# Altium schematic symbol library Relay.SchLib: 257 symbols (part 1 of 3)
Pins are listed as number, name and electrical type; pins without a type are passive.

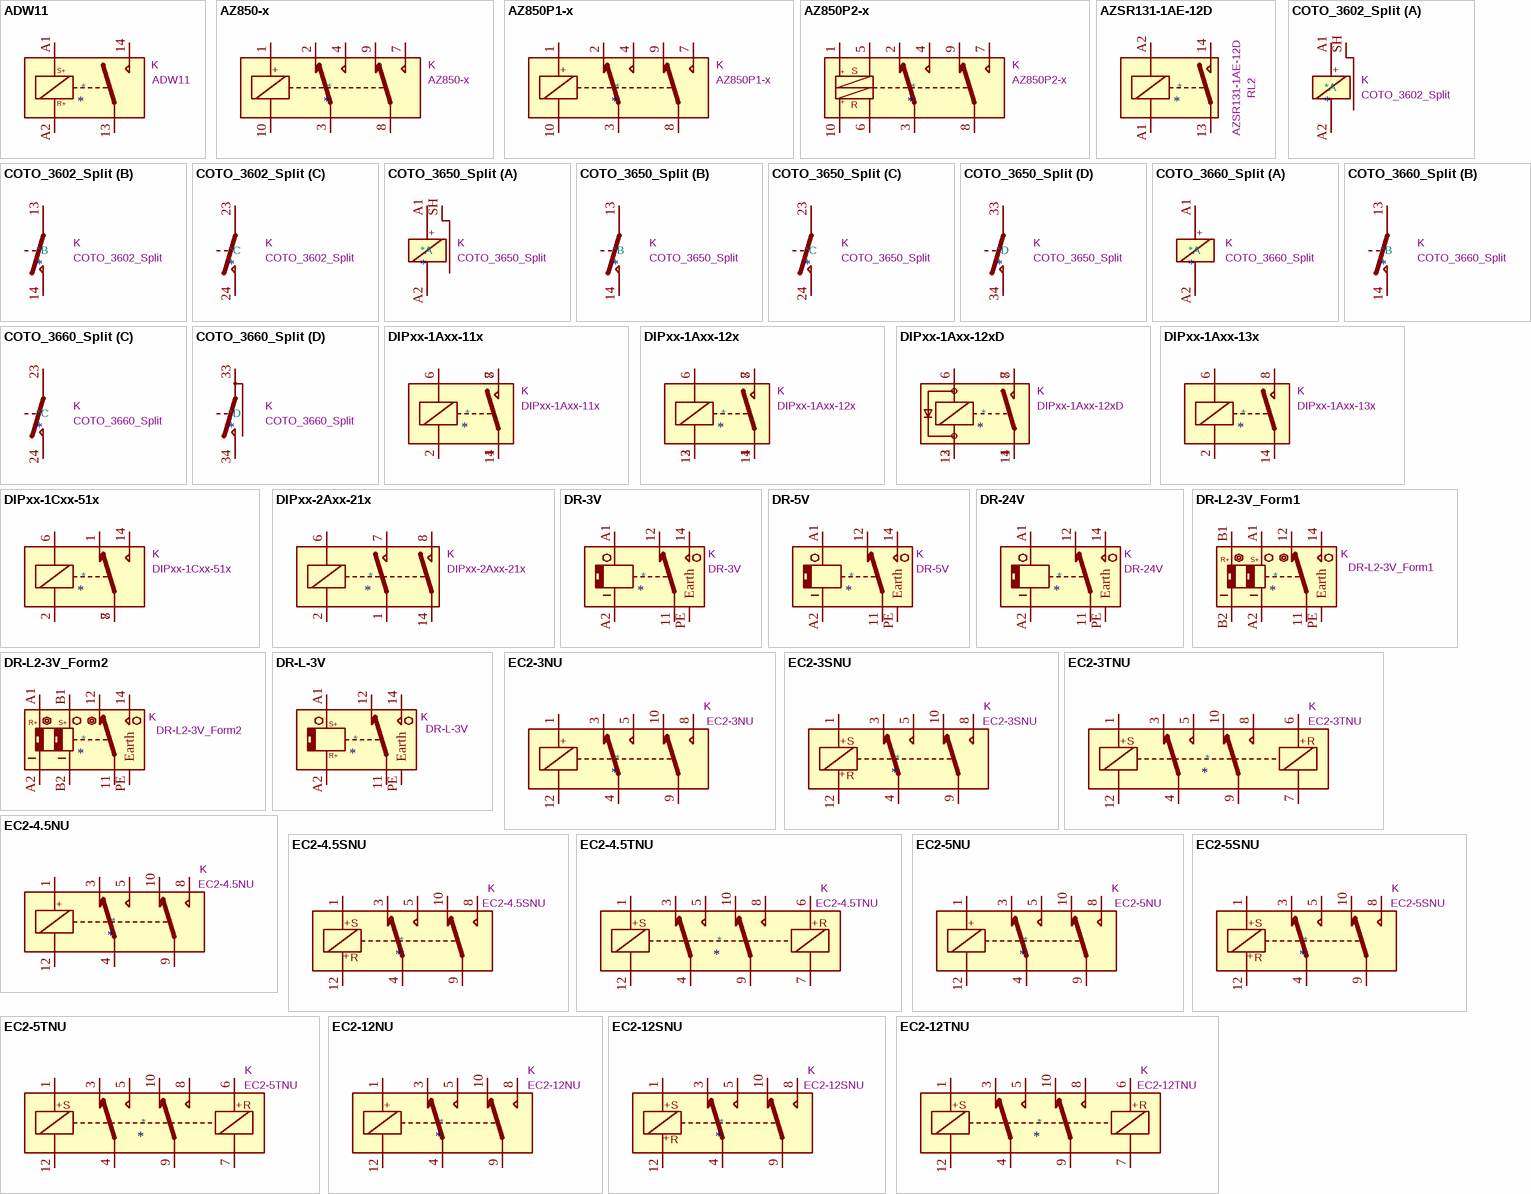
[diagram p0: symbols ADW11 to EC2-12TNU]

## ADW11
designator *  value ADW11  Reference: K
Panasonic, 8A/16A, Small Polarized Latching Power Relays, Single coil, 1 Form A; ki_keywords: SPST 1P1T latching bistable; ki_fp_filters: Relay*SPST*Panasonic*ADW11*; Footprint: Relay_THT:Relay_SPST_Panasonic_ADW11; Datasheet: https://api.pim.na.industrial.panasonic.com/file_stream/main/fileversion/270; Description_: Panasonic, 8A/16A, Small Polarized Latching Power Relays, Single coil, 1 Form A
pins: 13, 14, A1, A2
text: S+; R+

## AZ850-x
designator *  value AZ850-x  Reference: K
American Zettler, Microminiature Polarised Dual Pole Relay; ki_keywords: Miniature Polarised Relay Dual Pole; ki_fp_filters: Relay*DPDT*FRT5*; Footprint: Relay_THT:Relay_DPDT_FRT5; Datasheet: http://www.azettler.com/pdfs/az850.pdf; Description_: American Zettler, Microminiature Polarised Dual Pole Relay
pins: 1, 2, 3, 4, 7, 8, 9, 10
text: +

## AZ850P1-x
designator *  value AZ850P1-x  Reference: K
American Zettler, Microminiature Polarised Dual Pole Relay Bistable; ki_keywords: Miniature Polarised Relay Dual Pole Bistable; ki_fp_filters: Relay*DPDT*FRT5*; Footprint: Relay_THT:Relay_DPDT_FRT5; Datasheet: http://www.azettler.com/pdfs/az850.pdf; Description_: American Zettler, Microminiature Polarised Dual Pole Relay Bistable
pins: 1, 2, 3, 4, 7, 8, 9, 10
text: +

## AZ850P2-x
designator *  value AZ850P2-x  Reference: K
American Zettler, Microminiature Polarised Dual Pole Relay Bistable; ki_keywords: Miniature Polarised Relay Dual Pole Bistable; ki_fp_filters: Relay*DPDT*FRT5*; Footprint: Relay_THT:Relay_DPDT_FRT5; Datasheet: http://www.azettler.com/pdfs/az850.pdf; Description_: American Zettler, Microminiature Polarised Dual Pole Relay Bistable
pins: 1, 2, 3, 4, 5, 6, 7, 8, 9, 10
text: +; S; R

## AZSR131-1AE-12D
designator *  value AZSR131-1AE-12D  Reference: RL2
SPST, Closing Contact, 277VAC 35A max, 12V DC coil voltage; ki_keywords: Single Pole Reed Relay SPST; ki_fp_filters: Relay*AZSR131*; Footprint: Relay_THT:Relay_SPST_Zettler-AZSR131; Datasheet: https://www.azettler.com/pdfs/azsr131.pdf; Description_: SPST, Closing Contact, 277VAC 35A max, 12V DC coil voltage
pins: 13, 14, A1, A2

## COTO_3602_Split
designator *  value COTO_3602_Split  Reference: K
Low thermal EMF DPST-NO reed relay, 150V 0.25A, 30.48x16.76x12.06mm; ki_keywords: reed relay low thermal emf; ki_fp_filters: *Relay*COTO*3602*; Footprint: Relay_THT:Relay_DPST_COTO_3602; Datasheet: https://cotorelay.com/wp-content/uploads/2014/09/3600_series_reed_relay_datasheet.pdf; Description_: Low thermal EMF DPST-NO reed relay, 150V 0.25A, 30.48x16.76x12.06mm
part A pins: A1, A2, SH
part B pins: 13, 14
part C pins: 23, 24
part A text: +

## COTO_3650_Split
designator *  value COTO_3650_Split  Reference: K
Low thermal EMF 3PST-NO reed relay, 150V 0.25A, similar to 3660 but with independent shield, 30.48x16.76x12.06mm; ki_keywords: reed relay low thermal emf; ki_fp_filters: *Relay*COTO*3650*; Footprint: Relay_THT:Relay_3PST_COTO_3650; Datasheet: https://cotorelay.com/wp-content/uploads/2014/09/3600_series_reed_relay_datasheet.pdf; Description_: Low thermal EMF 3PST-NO reed relay, 150V 0.25A, similar to 3660 but with independent shield, 30.48x16.76x12.06mm
part A pins: A1, A2, SH
part B pins: 13, 14
part C pins: 23, 24
part D pins: 33, 34
part A text: +

## COTO_3660_Split
designator *  value COTO_3660_Split  Reference: K
Low thermal EMF 3PST-NO reed relay, 150V 0.25A, similar to 3650 but with shared shield/contact, 30.48x16.76x12.06mm; ki_keywords: reed relay low thermal emf; ki_fp_filters: *Relay*COTO*3660*; Footprint: Relay_THT:Relay_3PST_COTO_3660; Datasheet: https://cotorelay.com/wp-content/uploads/2014/09/3600_series_reed_relay_datasheet.pdf; Description_: Low thermal EMF 3PST-NO reed relay, 150V 0.25A, similar to 3650 but with shared shield/contact, 30.48x16.76x12.06mm
part A pins: A1, A2
part B pins: 13, 14
part C pins: 23, 24
part D pins: 33, 34
part A text: +

## DIPxx-1Axx-11x
designator *  value DIPxx-1Axx-11x  Reference: K
Standex Meder DIP reed relay, SPST, Closing Contact; ki_keywords: Single Pole Reed Relay SPST; ki_fp_filters: Relay*StandexMeder*DIP*LowProfile*; Footprint: Relay_THT:Relay_StandexMeder_DIP_LowProfile; Datasheet: https://standexelectronics.com/wp-content/uploads/datasheet_reed_relay_DIP.pdf; Description_: Standex Meder DIP reed relay, SPST, Closing Contact
pins: 1, 2, 6, 7, 8, 14

## DIPxx-1Axx-12x
designator *  value DIPxx-1Axx-12x  Reference: K
Standex Meder DIP reed relay, SPST, Closing Contact; ki_keywords: Single Pole Reed Relay SPST; ki_fp_filters: Relay*StandexMeder*DIP*LowProfile*; Footprint: Relay_THT:Relay_StandexMeder_DIP_LowProfile; Datasheet: https://standexelectronics.com/wp-content/uploads/datasheet_reed_relay_DIP.pdf; Description_: Standex Meder DIP reed relay, SPST, Closing Contact
pins: 1, 2, 6, 7, 8, 13, 14

## DIPxx-1Axx-12xD
designator *  value DIPxx-1Axx-12xD  Reference: K
Standex Meder DIP reed relay, SPST, Closing Contact, including diode; ki_keywords: Single Pole Reed Relay SPST; ki_fp_filters: Relay*StandexMeder*DIP*LowProfile*; Footprint: Relay_THT:Relay_StandexMeder_DIP_LowProfile; Datasheet: https://standexelectronics.com/wp-content/uploads/datasheet_reed_relay_DIP.pdf; Description_: Standex Meder DIP reed relay, SPST, Closing Contact, including diode
pins: 1, 2, 6, 7, 8, 13, 14

## DIPxx-1Axx-13x
designator *  value DIPxx-1Axx-13x  Reference: K
Standex Meder DIP reed relay, SPST, Closing Contact; ki_keywords: Single Pole Reed Relay SPST; ki_fp_filters: Relay*StandexMeder*DIP*LowProfile*; Footprint: Relay_THT:Relay_StandexMeder_DIP_LowProfile; Datasheet: https://standexelectronics.com/wp-content/uploads/datasheet_reed_relay_DIP.pdf; Description_: Standex Meder DIP reed relay, SPST, Closing Contact
pins: 2, 6, 8, 14

## DIPxx-1Cxx-51x
designator *  value DIPxx-1Cxx-51x  Reference: K
Standex Meder DIP reed relay, SPDT; ki_keywords: Single Pole Reed Relay SPDT; ki_fp_filters: Relay*StandexMeder*DIP*LowProfile*; Footprint: Relay_THT:Relay_StandexMeder_DIP_LowProfile; Datasheet: https://standexelectronics.com/wp-content/uploads/datasheet_reed_relay_DIP.pdf; Description_: Standex Meder DIP reed relay, SPDT
pins: 1, 2, 6, 7, 8, 14

## DIPxx-2Axx-21x
designator *  value DIPxx-2Axx-21x  Reference: K
Standex Meder DIP reed relay, DPST, Closing Contacts; ki_keywords: Single Pole Reed Relay DPST; ki_fp_filters: Relay*StandexMeder*DIP*LowProfile*; Footprint: Relay_THT:Relay_StandexMeder_DIP_LowProfile; Datasheet: https://standexelectronics.com/wp-content/uploads/datasheet_reed_relay_DIP.pdf; Description_: Standex Meder DIP reed relay, DPST, Closing Contacts
pins: 1, 2, 6, 7, 8, 14

## DR-3V
designator *  value DR-3V  Reference: K
3V DC, Single side stable, Polarized Coil, High speed; ki_keywords: highly reliable; ki_fp_filters: *Relay*SPDT*Panasonic?DR*; Footprint: Relay_THT:Relay_SPDT_Panasonic_DR; Datasheet: https://www.panasonic-electric-works.com/pew/de/downloads/ds_dr_en_discon.pdf; Description_: 3V DC, Single side stable, Polarized Coil, High speed
pins: 11, 12, 14, A1, A2, PE Earth

## DR-5V
designator *  value DR-5V  Reference: K
5V DC, Single side stable, Polarized Coil, High speed; ki_keywords: highly reliable; ki_fp_filters: *Relay*SPDT*Panasonic?DR*; Footprint: Relay_THT:Relay_SPDT_Panasonic_DR; Datasheet: https://mediap.industry.panasonic.eu/assets/download-files/import/ds_dr_en_discon.pdf; Description_: 5V DC, Single side stable, Polarized Coil, High speed
pins: 11, 12, 14, A1, A2, PE Earth

## DR-24V
designator *  value DR-24V  Reference: K
5V DC, Single side stable, Polarized Coil, High speed; ki_keywords: highly reliable; ki_fp_filters: *Relay*SPDT*Panasonic?DR*; Footprint: Relay_THT:Relay_SPDT_Panasonic_DR; Datasheet: https://mediap.industry.panasonic.eu/assets/download-files/import/ds_dr_en_discon.pdf; Description_: 5V DC, Single side stable, Polarized Coil, High speed
pins: 11, 12, 14, A1, A2, PE Earth

## DR-L2-3V_Form1
designator *  value DR-L2-3V_Form1  Reference: K
3V DC, 2 Latching Polarized Coils, Set A1, High speed; ki_keywords: highly reliable dual latch; ki_fp_filters: *Relay*SPDT*Panasonic?DR?L2*; Footprint: Relay_THT:Relay_SPDT_Panasonic_DR-L2; Datasheet: https://mediap.industry.panasonic.eu/assets/download-files/import/ds_dr_en_discon.pdf; Description_: 3V DC, 2 Latching Polarized Coils, Set A1, High speed
pins: 11, 12, 14, A1, A2, B1, B2, PE Earth
text: R+; S+

## DR-L2-3V_Form2
designator *  value DR-L2-3V_Form2  Reference: K
3V DC, 2 Latching Polarized Coils, Set B1, High speed; ki_keywords: highly reliable dual latch; ki_fp_filters: *Relay*SPDT*Panasonic?DR?L2*; Footprint: Relay_THT:Relay_SPDT_Panasonic_DR-L2; Datasheet: https://mediap.industry.panasonic.eu/assets/download-files/import/ds_dr_en_discon.pdf; Description_: 3V DC, 2 Latching Polarized Coils, Set B1, High speed
pins: 11, 12, 14, A1, A2, B1, B2, PE Earth
text: R+; S+

## DR-L-3V
designator *  value DR-L-3V  Reference: K
3V DC, 1 Latching Polarized Coil, High speed; ki_keywords: higly reliable single latch; ki_fp_filters: *Relay*SPDT*Panasonic?DR?L*; Footprint: Relay_THT:Relay_SPDT_Panasonic_DR-L; Datasheet: https://mediap.industry.panasonic.eu/assets/download-files/import/ds_dr_en_discon.pdf; Description_: 3V DC, 1 Latching Polarized Coil, High speed
pins: 11, 12, 14, A1, A2, PE Earth
text: S+; R+

## EC2-3NU
designator *  value EC2-3NU  Reference: K
General purpose signal relay, Kemet EC2 Series, DPDT (2 Form C), non-latching, through hole, 60W/125VA, 220VDC/250VAC, 2A, 3V DC coil; ki_keywords: signal relay double pole double throw DPDT DC coil non latching; ki_fp_filters: Relay*Kemet*EC2*; Footprint: Relay_THT:Relay_DPDT_Kemet_EC2_NU; Datasheet: https://content.kemet.com/datasheets/KEM_R7002_EC2_EE2.pdf; Description_: General purpose signal relay, Kemet EC2 Series, DPDT (2 Form C), non-latching, through hole, 60W/125VA, 220VDC/250VAC, 2A, 3V DC coil
pins: 1, 3, 4, 5, 8, 9, 10, 12
text: +

## EC2-3SNU
designator *  value EC2-3SNU  Reference: K
General purpose signal relay, Kemet EC2 Series, DPDT (2 Form C), single coil latching, through hole, 60W/125VA, 220VDC/250VAC, 2A, 3V DC coil; ki_keywords: signal relay double pole double throw DPDT DC coil single coil latching; ki_fp_filters: Relay*Kemet*EC2*; Footprint: Relay_THT:Relay_DPDT_Kemet_EC2_NU; Datasheet: https://content.kemet.com/datasheets/KEM_R7002_EC2_EE2.pdf; Description_: General purpose signal relay, Kemet EC2 Series, DPDT (2 Form C), single coil latching, through hole, 60W/125VA, 220VDC/250VAC, 2A, 3V DC coil
pins: 1, 3, 4, 5, 8, 9, 10, 12
text: +; S; R

## EC2-3TNU
designator *  value EC2-3TNU  Reference: K
General purpose signal relay, Kemet EC2 Series, DPDT (2 Form C), double coil latching, through hole, 60W/125VA, 220VDC/250VAC, 2A, 3V DC coil; ki_keywords: signal relay double pole double throw DPDT DC coil double dual coil latching; ki_fp_filters: Relay*Kemet*EC2*DoubleCoil*; Footprint: Relay_THT:Relay_DPDT_Kemet_EC2_NU_DoubleCoil; Datasheet: https://content.kemet.com/datasheets/KEM_R7002_EC2_EE2.pdf; Description_: General purpose signal relay, Kemet EC2 Series, DPDT (2 Form C), double coil latching, through hole, 60W/125VA, 220VDC/250VAC, 2A, 3V DC coil
pins: 1, 3, 4, 5, 6, 7, 8, 9, 10, 12
text: +; S; R

## EC2-4.5NU
designator *  value EC2-4.5NU  Reference: K
General purpose signal relay, Kemet EC2 Series, DPDT (2 Form C), non-latching, through hole, 60W/125VA, 220VDC/250VAC, 2A, 4.5V DC coil; ki_keywords: signal relay double pole double throw DPDT DC coil non latching; ki_fp_filters: Relay*Kemet*EC2*; Footprint: Relay_THT:Relay_DPDT_Kemet_EC2_NU; Datasheet: https://content.kemet.com/datasheets/KEM_R7002_EC2_EE2.pdf; Description_: General purpose signal relay, Kemet EC2 Series, DPDT (2 Form C), non-latching, through hole, 60W/125VA, 220VDC/250VAC, 2A, 4.5V DC coil
pins: 1, 3, 4, 5, 8, 9, 10, 12
text: +

## EC2-4.5SNU
designator *  value EC2-4.5SNU  Reference: K
General purpose signal relay, Kemet EC2 Series, DPDT (2 Form C), single coil latching, through hole, 60W/125VA, 220VDC/250VAC, 2A, 4.5V DC coil; ki_keywords: signal relay double pole double throw DPDT DC coil single coil latching; ki_fp_filters: Relay*Kemet*EC2*; Footprint: Relay_THT:Relay_DPDT_Kemet_EC2_NU; Datasheet: https://content.kemet.com/datasheets/KEM_R7002_EC2_EE2.pdf; Description_: General purpose signal relay, Kemet EC2 Series, DPDT (2 Form C), single coil latching, through hole, 60W/125VA, 220VDC/250VAC, 2A, 4.5V DC coil
pins: 1, 3, 4, 5, 8, 9, 10, 12
text: +; S; R

## EC2-4.5TNU
designator *  value EC2-4.5TNU  Reference: K
General purpose signal relay, Kemet EC2 Series, DPDT (2 Form C), double coil latching, through hole, 60W/125VA, 220VDC/250VAC, 2A, 4.5V DC coil; ki_keywords: signal relay double pole double throw DPDT DC coil double dual coil latching; ki_fp_filters: Relay*Kemet*EC2*DoubleCoil*; Footprint: Relay_THT:Relay_DPDT_Kemet_EC2_NU_DoubleCoil; Datasheet: https://content.kemet.com/datasheets/KEM_R7002_EC2_EE2.pdf; Description_: General purpose signal relay, Kemet EC2 Series, DPDT (2 Form C), double coil latching, through hole, 60W/125VA, 220VDC/250VAC, 2A, 4.5V DC coil
pins: 1, 3, 4, 5, 6, 7, 8, 9, 10, 12
text: +; S; R

## EC2-5NU
designator *  value EC2-5NU  Reference: K
General purpose signal relay, Kemet EC2 Series, DPDT (2 Form C), non-latching, through hole, 60W/125VA, 220VDC/250VAC, 2A, 5V DC coil; ki_keywords: signal relay double pole double throw DPDT DC coil non latching; ki_fp_filters: Relay*Kemet*EC2*; Footprint: Relay_THT:Relay_DPDT_Kemet_EC2_NU; Datasheet: https://content.kemet.com/datasheets/KEM_R7002_EC2_EE2.pdf; Description_: General purpose signal relay, Kemet EC2 Series, DPDT (2 Form C), non-latching, through hole, 60W/125VA, 220VDC/250VAC, 2A, 5V DC coil
pins: 1, 3, 4, 5, 8, 9, 10, 12
text: +

## EC2-5SNU
designator *  value EC2-5SNU  Reference: K
General purpose signal relay, Kemet EC2 Series, DPDT (2 Form C), single coil latching, through hole, 60W/125VA, 220VDC/250VAC, 2A, 5V DC coil; ki_keywords: signal relay double pole double throw DPDT DC coil single coil latching; ki_fp_filters: Relay*Kemet*EC2*; Footprint: Relay_THT:Relay_DPDT_Kemet_EC2_NU; Datasheet: https://content.kemet.com/datasheets/KEM_R7002_EC2_EE2.pdf; Description_: General purpose signal relay, Kemet EC2 Series, DPDT (2 Form C), single coil latching, through hole, 60W/125VA, 220VDC/250VAC, 2A, 5V DC coil
pins: 1, 3, 4, 5, 8, 9, 10, 12
text: +; S; R

## EC2-5TNU
designator *  value EC2-5TNU  Reference: K
General purpose signal relay, Kemet EC2 Series, DPDT (2 Form C), double coil latching, through hole, 60W/125VA, 220VDC/250VAC, 2A, 5V DC coil; ki_keywords: signal relay double pole double throw DPDT DC coil double dual coil latching; ki_fp_filters: Relay*Kemet*EC2*DoubleCoil*; Footprint: Relay_THT:Relay_DPDT_Kemet_EC2_NU_DoubleCoil; Datasheet: https://content.kemet.com/datasheets/KEM_R7002_EC2_EE2.pdf; Description_: General purpose signal relay, Kemet EC2 Series, DPDT (2 Form C), double coil latching, through hole, 60W/125VA, 220VDC/250VAC, 2A, 5V DC coil
pins: 1, 3, 4, 5, 6, 7, 8, 9, 10, 12
text: +; S; R

## EC2-12NU
designator *  value EC2-12NU  Reference: K
General purpose signal relay, Kemet EC2 Series, DPDT (2 Form C), non-latching, through hole, 60W/125VA, 220VDC/250VAC, 2A, 12V DC coil; ki_keywords: signal relay double pole double throw DPDT DC coil non latching; ki_fp_filters: Relay*Kemet*EC2*; Footprint: Relay_THT:Relay_DPDT_Kemet_EC2_NU; Datasheet: https://content.kemet.com/datasheets/KEM_R7002_EC2_EE2.pdf; Description_: General purpose signal relay, Kemet EC2 Series, DPDT (2 Form C), non-latching, through hole, 60W/125VA, 220VDC/250VAC, 2A, 12V DC coil
pins: 1, 3, 4, 5, 8, 9, 10, 12
text: +

## EC2-12SNU
designator *  value EC2-12SNU  Reference: K
General purpose signal relay, Kemet EC2 Series, DPDT (2 Form C), single coil latching, through hole, 60W/125VA, 220VDC/250VAC, 2A, 12V DC coil; ki_keywords: signal relay double pole double throw DPDT DC coil single coil latching; ki_fp_filters: Relay*Kemet*EC2*; Footprint: Relay_THT:Relay_DPDT_Kemet_EC2_NU; Datasheet: https://content.kemet.com/datasheets/KEM_R7002_EC2_EE2.pdf; Description_: General purpose signal relay, Kemet EC2 Series, DPDT (2 Form C), single coil latching, through hole, 60W/125VA, 220VDC/250VAC, 2A, 12V DC coil
pins: 1, 3, 4, 5, 8, 9, 10, 12
text: +; S; R

## EC2-12TNU
designator *  value EC2-12TNU  Reference: K
General purpose signal relay, Kemet EC2 Series, DPDT (2 Form C), double coil latching, through hole, 60W/125VA, 220VDC/250VAC, 2A, 12V DC coil; ki_keywords: signal relay double pole double throw DPDT DC coil double dual coil latching; ki_fp_filters: Relay*Kemet*EC2*DoubleCoil*; Footprint: Relay_THT:Relay_DPDT_Kemet_EC2_NU_DoubleCoil; Datasheet: https://content.kemet.com/datasheets/KEM_R7002_EC2_EE2.pdf; Description_: General purpose signal relay, Kemet EC2 Series, DPDT (2 Form C), double coil latching, through hole, 60W/125VA, 220VDC/250VAC, 2A, 12V DC coil
pins: 1, 3, 4, 5, 6, 7, 8, 9, 10, 12
text: +; S; R

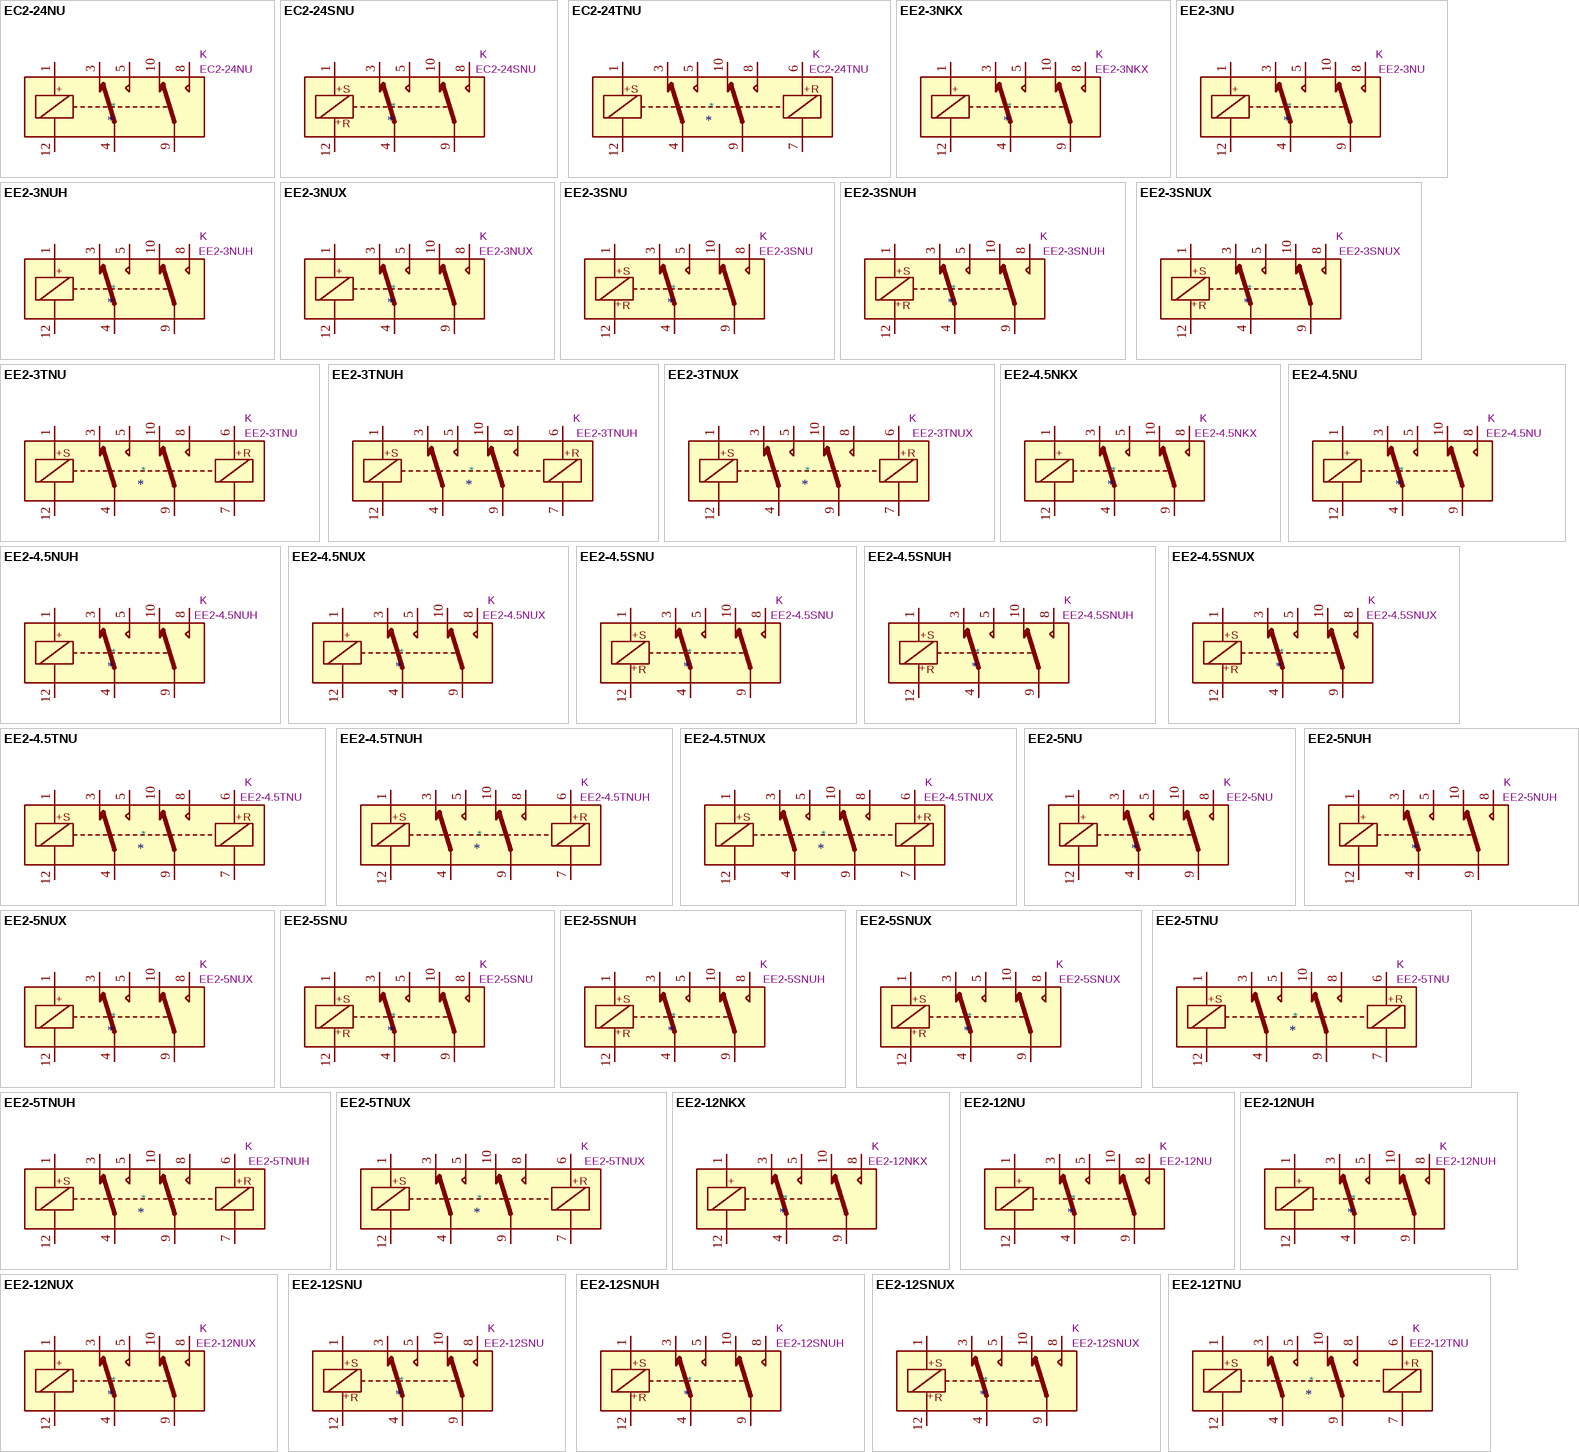
[diagram p1: symbols EC2-24NU to EE2-12TNU]

## EC2-24NU
designator *  value EC2-24NU  Reference: K
General purpose signal relay, Kemet EC2 Series, DPDT (2 Form C), non-latching, through hole, 60W/125VA, 220VDC/250VAC, 2A, 24V DC coil; ki_keywords: signal relay double pole double throw DPDT DC coil non latching; ki_fp_filters: Relay*Kemet*EC2*; Footprint: Relay_THT:Relay_DPDT_Kemet_EC2_NU; Datasheet: https://content.kemet.com/datasheets/KEM_R7002_EC2_EE2.pdf; Description_: General purpose signal relay, Kemet EC2 Series, DPDT (2 Form C), non-latching, through hole, 60W/125VA, 220VDC/250VAC, 2A, 24V DC coil
pins: 1, 3, 4, 5, 8, 9, 10, 12
text: +

## EC2-24SNU
designator *  value EC2-24SNU  Reference: K
General purpose signal relay, Kemet EC2 Series, DPDT (2 Form C), single coil latching, through hole, 60W/125VA, 220VDC/250VAC, 2A, 24V DC coil; ki_keywords: signal relay double pole double throw DPDT DC coil single coil latching; ki_fp_filters: Relay*Kemet*EC2*; Footprint: Relay_THT:Relay_DPDT_Kemet_EC2_NU; Datasheet: https://content.kemet.com/datasheets/KEM_R7002_EC2_EE2.pdf; Description_: General purpose signal relay, Kemet EC2 Series, DPDT (2 Form C), single coil latching, through hole, 60W/125VA, 220VDC/250VAC, 2A, 24V DC coil
pins: 1, 3, 4, 5, 8, 9, 10, 12
text: +; S; R

## EC2-24TNU
designator *  value EC2-24TNU  Reference: K
General purpose signal relay, Kemet EC2 Series, DPDT (2 Form C), double coil latching, through hole, 60W/125VA, 220VDC/250VAC, 2A, 24V DC coil; ki_keywords: signal relay double pole double throw DPDT DC coil double dual coil latching; ki_fp_filters: Relay*Kemet*EC2*DoubleCoil*; Footprint: Relay_THT:Relay_DPDT_Kemet_EC2_NU_DoubleCoil; Datasheet: https://content.kemet.com/datasheets/KEM_R7002_EC2_EE2.pdf; Description_: General purpose signal relay, Kemet EC2 Series, DPDT (2 Form C), double coil latching, through hole, 60W/125VA, 220VDC/250VAC, 2A, 24V DC coil
pins: 1, 3, 4, 5, 6, 7, 8, 9, 10, 12
text: +; S; R

## EE2-3NKX
designator *  value EE2-3NKX  Reference: K
General purpose signal relay, Kemet EE2 Series, DPDT (2 Form C), non-latching, high breakdown voltage, high solder joint reliability SMD, 60W/125VA, 220VDC/250VAC, 2A, 3V DC coil; ki_keywords: signal relay double pole double throw DPDT DC coil non latching; ki_fp_filters: Relay*DPDT*Kemet*EE2*NKX*; Footprint: Relay_SMD:Relay_DPDT_Kemet_EE2_NUX_NKX; Datasheet: https://content.kemet.com/datasheets/KEM_R7002_EC2_EE2.pdf; Description_: General purpose signal relay, Kemet EE2 Series, DPDT (2 Form C), non-latching, high breakdown voltage, high solder joint reliability SMD, 60W/125VA, 220VDC/250VAC, 2A, 3V DC coil
pins: 1, 3, 4, 5, 8, 9, 10, 12
text: +

## EE2-3NU
designator *  value EE2-3NU  Reference: K
General purpose signal relay, Kemet EE2 Series, DPDT (2 Form C), non-latching, SMD, 60W/125VA, 220VDC/250VAC, 2A, 3V DC coil; ki_keywords: signal relay double pole double throw DPDT DC coil non latching; ki_fp_filters: Relay*DPDT*Kemet*EE2*NU*; Footprint: Relay_SMD:Relay_DPDT_Kemet_EE2_NU; Datasheet: https://content.kemet.com/datasheets/KEM_R7002_EC2_EE2.pdf; Description_: General purpose signal relay, Kemet EE2 Series, DPDT (2 Form C), non-latching, SMD, 60W/125VA, 220VDC/250VAC, 2A, 3V DC coil
pins: 1, 3, 4, 5, 8, 9, 10, 12
text: +

## EE2-3NUH
designator *  value EE2-3NUH  Reference: K
General purpose signal relay, Kemet EE2 Series, DPDT (2 Form C), non-latching, small footprint SMD, 60W/125VA, 220VDC/250VAC, 2A, 3V DC coil; ki_keywords: signal relay double pole double throw DPDT DC coil non latching; ki_fp_filters: Relay*DPDT*Kemet*EE2*NUH*; Footprint: Relay_SMD:Relay_DPDT_Kemet_EE2_NUH; Datasheet: https://content.kemet.com/datasheets/KEM_R7002_EC2_EE2.pdf; Description_: General purpose signal relay, Kemet EE2 Series, DPDT (2 Form C), non-latching, small footprint SMD, 60W/125VA, 220VDC/250VAC, 2A, 3V DC coil
pins: 1, 3, 4, 5, 8, 9, 10, 12
text: +

## EE2-3NUX
designator *  value EE2-3NUX  Reference: K
General purpose signal relay, Kemet EE2 Series, DPDT (2 Form C), non-latching, high solder joint reliability SMD, 60W/125VA, 220VDC/250VAC, 2A, 3V DC coil; ki_keywords: signal relay double pole double throw DPDT DC coil non latching; ki_fp_filters: Relay*DPDT*Kemet*EE2*NUX*; Footprint: Relay_SMD:Relay_DPDT_Kemet_EE2_NUX_NKX; Datasheet: https://content.kemet.com/datasheets/KEM_R7002_EC2_EE2.pdf; Description_: General purpose signal relay, Kemet EE2 Series, DPDT (2 Form C), non-latching, high solder joint reliability SMD, 60W/125VA, 220VDC/250VAC, 2A, 3V DC coil
pins: 1, 3, 4, 5, 8, 9, 10, 12
text: +

## EE2-3SNU
designator *  value EE2-3SNU  Reference: K
General purpose signal relay, Kemet EE2 Series, DPDT (2 Form C), single coil latching, SMD, 60W/125VA, 220VDC/250VAC, 2A, 3V DC coil; ki_keywords: signal relay double pole double throw DPDT DC coil single coil latching; ki_fp_filters: Relay*DPDT*Kemet*EE2*NU*; Footprint: Relay_SMD:Relay_DPDT_Kemet_EE2_NU; Datasheet: https://content.kemet.com/datasheets/KEM_R7002_EC2_EE2.pdf; Description_: General purpose signal relay, Kemet EE2 Series, DPDT (2 Form C), single coil latching, SMD, 60W/125VA, 220VDC/250VAC, 2A, 3V DC coil
pins: 1, 3, 4, 5, 8, 9, 10, 12
text: +; S; R

## EE2-3SNUH
designator *  value EE2-3SNUH  Reference: K
General purpose signal relay, Kemet EE2 Series, DPDT (2 Form C), single coil latching, small footprint SMD, 60W/125VA, 220VDC/250VAC, 2A, 3V DC coil; ki_keywords: signal relay double pole double throw DPDT DC coil single coil latching; ki_fp_filters: Relay*DPDT*Kemet*EE2*NUH*; Footprint: Relay_SMD:Relay_DPDT_Kemet_EE2_NUH; Datasheet: https://content.kemet.com/datasheets/KEM_R7002_EC2_EE2.pdf; Description_: General purpose signal relay, Kemet EE2 Series, DPDT (2 Form C), single coil latching, small footprint SMD, 60W/125VA, 220VDC/250VAC, 2A, 3V DC coil
pins: 1, 3, 4, 5, 8, 9, 10, 12
text: +; S; R

## EE2-3SNUX
designator *  value EE2-3SNUX  Reference: K
General purpose signal relay, Kemet EE2 Series, DPDT (2 Form C), single coil latching, high solder joint reliability SMD, 60W/125VA, 220VDC/250VAC, 2A, 3V DC coil; ki_keywords: signal relay double pole double throw DPDT DC coil single coil latching; ki_fp_filters: Relay*DPDT*Kemet*EE2*NUX*; Footprint: Relay_SMD:Relay_DPDT_Kemet_EE2_NUX_NKX; Datasheet: https://content.kemet.com/datasheets/KEM_R7002_EC2_EE2.pdf; Description_: General purpose signal relay, Kemet EE2 Series, DPDT (2 Form C), single coil latching, high solder joint reliability SMD, 60W/125VA, 220VDC/250VAC, 2A, 3V DC coil
pins: 1, 3, 4, 5, 8, 9, 10, 12
text: +; S; R

## EE2-3TNU
designator *  value EE2-3TNU  Reference: K
General purpose signal relay, Kemet EE2 Series, DPDT (2 Form C), double coil latching, SMD, 60W/125VA, 220VDC/250VAC, 2A, 3V DC coil; ki_keywords: signal relay double pole double throw DPDT DC coil double dual coil latching; ki_fp_filters: Relay*DPDT*Kemet*EE2*NU*DoubleCoil*; Footprint: Relay_SMD:Relay_DPDT_Kemet_EE2_NU_DoubleCoil; Datasheet: https://content.kemet.com/datasheets/KEM_R7002_EC2_EE2.pdf; Description_: General purpose signal relay, Kemet EE2 Series, DPDT (2 Form C), double coil latching, SMD, 60W/125VA, 220VDC/250VAC, 2A, 3V DC coil
pins: 1, 3, 4, 5, 6, 7, 8, 9, 10, 12
text: +; S; R

## EE2-3TNUH
designator *  value EE2-3TNUH  Reference: K
General purpose signal relay, Kemet EE2 Series, DPDT (2 Form C), double coil latching, small footprint SMD, 60W/125VA, 220VDC/250VAC, 2A, 3V DC coil; ki_keywords: signal relay double pole double throw DPDT DC coil double dual coil latching; ki_fp_filters: Relay*DPDT*Kemet*EE2*NUH*DoubleCoil*; Footprint: Relay_SMD:Relay_DPDT_Kemet_EE2_NUH_DoubleCoil; Datasheet: https://content.kemet.com/datasheets/KEM_R7002_EC2_EE2.pdf; Description_: General purpose signal relay, Kemet EE2 Series, DPDT (2 Form C), double coil latching, small footprint SMD, 60W/125VA, 220VDC/250VAC, 2A, 3V DC coil
pins: 1, 3, 4, 5, 6, 7, 8, 9, 10, 12
text: +; S; R

## EE2-3TNUX
designator *  value EE2-3TNUX  Reference: K
General purpose signal relay, Kemet EE2 Series, DPDT (2 Form C), double coil latching, high solder joint reliability SMD, 60W/125VA, 220VDC/250VAC, 2A, 3V DC coil; ki_keywords: signal relay double pole double throw DPDT DC coil double dual coil latching; ki_fp_filters: Relay*DPDT*Kemet*EE2*NUX*DoubleCoil*; Footprint: Relay_SMD:Relay_DPDT_Kemet_EE2_NUX_DoubleCoil; Datasheet: https://content.kemet.com/datasheets/KEM_R7002_EC2_EE2.pdf; Description_: General purpose signal relay, Kemet EE2 Series, DPDT (2 Form C), double coil latching, high solder joint reliability SMD, 60W/125VA, 220VDC/250VAC, 2A, 3V DC coil
pins: 1, 3, 4, 5, 6, 7, 8, 9, 10, 12
text: +; S; R

## EE2-4.5NKX
designator *  value EE2-4.5NKX  Reference: K
General purpose signal relay, Kemet EE2 Series, DPDT (2 Form C), non-latching, high breakdown voltage, high solder joint reliability SMD, 60W/125VA, 220VDC/250VAC, 2A, 4.5V DC coil; ki_keywords: signal relay double pole double throw DPDT DC coil non latching; ki_fp_filters: Relay*DPDT*Kemet*EE2*NKX*; Footprint: Relay_SMD:Relay_DPDT_Kemet_EE2_NUX_NKX; Datasheet: https://content.kemet.com/datasheets/KEM_R7002_EC2_EE2.pdf; Description_: General purpose signal relay, Kemet EE2 Series, DPDT (2 Form C), non-latching, high breakdown voltage, high solder joint reliability SMD, 60W/125VA, 220VDC/250VAC, 2A, 4.5V DC coil
pins: 1, 3, 4, 5, 8, 9, 10, 12
text: +

## EE2-4.5NU
designator *  value EE2-4.5NU  Reference: K
General purpose signal relay, Kemet EE2 Series, DPDT (2 Form C), non-latching, SMD, 60W/125VA, 220VDC/250VAC, 2A, 4.5V DC coil; ki_keywords: signal relay double pole double throw DPDT DC coil non latching; ki_fp_filters: Relay*DPDT*Kemet*EE2*NU*; Footprint: Relay_SMD:Relay_DPDT_Kemet_EE2_NU; Datasheet: https://content.kemet.com/datasheets/KEM_R7002_EC2_EE2.pdf; Description_: General purpose signal relay, Kemet EE2 Series, DPDT (2 Form C), non-latching, SMD, 60W/125VA, 220VDC/250VAC, 2A, 4.5V DC coil
pins: 1, 3, 4, 5, 8, 9, 10, 12
text: +

## EE2-4.5NUH
designator *  value EE2-4.5NUH  Reference: K
General purpose signal relay, Kemet EE2 Series, DPDT (2 Form C), non-latching, small footprint SMD, 60W/125VA, 220VDC/250VAC, 2A, 4.5V DC coil; ki_keywords: signal relay double pole double throw DPDT DC coil non latching; ki_fp_filters: Relay*DPDT*Kemet*EE2*NUH*; Footprint: Relay_SMD:Relay_DPDT_Kemet_EE2_NUH; Datasheet: https://content.kemet.com/datasheets/KEM_R7002_EC2_EE2.pdf; Description_: General purpose signal relay, Kemet EE2 Series, DPDT (2 Form C), non-latching, small footprint SMD, 60W/125VA, 220VDC/250VAC, 2A, 4.5V DC coil
pins: 1, 3, 4, 5, 8, 9, 10, 12
text: +

## EE2-4.5NUX
designator *  value EE2-4.5NUX  Reference: K
General purpose signal relay, Kemet EE2 Series, DPDT (2 Form C), non-latching, high solder joint reliability SMD, 60W/125VA, 220VDC/250VAC, 2A, 4.5V DC coil; ki_keywords: signal relay double pole double throw DPDT DC coil non latching; ki_fp_filters: Relay*DPDT*Kemet*EE2*NUX*; Footprint: Relay_SMD:Relay_DPDT_Kemet_EE2_NUX_NKX; Datasheet: https://content.kemet.com/datasheets/KEM_R7002_EC2_EE2.pdf; Description_: General purpose signal relay, Kemet EE2 Series, DPDT (2 Form C), non-latching, high solder joint reliability SMD, 60W/125VA, 220VDC/250VAC, 2A, 4.5V DC coil
pins: 1, 3, 4, 5, 8, 9, 10, 12
text: +

## EE2-4.5SNU
designator *  value EE2-4.5SNU  Reference: K
General purpose signal relay, Kemet EE2 Series, DPDT (2 Form C), single coil latching, SMD, 60W/125VA, 220VDC/250VAC, 2A, 4.5V DC coil; ki_keywords: signal relay double pole double throw DPDT DC coil single coil latching; ki_fp_filters: Relay*DPDT*Kemet*EE2*NU*; Footprint: Relay_SMD:Relay_DPDT_Kemet_EE2_NU; Datasheet: https://content.kemet.com/datasheets/KEM_R7002_EC2_EE2.pdf; Description_: General purpose signal relay, Kemet EE2 Series, DPDT (2 Form C), single coil latching, SMD, 60W/125VA, 220VDC/250VAC, 2A, 4.5V DC coil
pins: 1, 3, 4, 5, 8, 9, 10, 12
text: +; S; R

## EE2-4.5SNUH
designator *  value EE2-4.5SNUH  Reference: K
General purpose signal relay, Kemet EE2 Series, DPDT (2 Form C), single coil latching, small footprint SMD, 60W/125VA, 220VDC/250VAC, 2A, 4.5V DC coil; ki_keywords: signal relay double pole double throw DPDT DC coil single coil latching; ki_fp_filters: Relay*DPDT*Kemet*EE2*NUH*; Footprint: Relay_SMD:Relay_DPDT_Kemet_EE2_NUH; Datasheet: https://content.kemet.com/datasheets/KEM_R7002_EC2_EE2.pdf; Description_: General purpose signal relay, Kemet EE2 Series, DPDT (2 Form C), single coil latching, small footprint SMD, 60W/125VA, 220VDC/250VAC, 2A, 4.5V DC coil
pins: 1, 3, 4, 5, 8, 9, 10, 12
text: +; S; R

## EE2-4.5SNUX
designator *  value EE2-4.5SNUX  Reference: K
General purpose signal relay, Kemet EE2 Series, DPDT (2 Form C), single coil latching, high solder joint reliability SMD, 60W/125VA, 220VDC/250VAC, 2A, 4.5V DC coil; ki_keywords: signal relay double pole double throw DPDT DC coil single coil latching; ki_fp_filters: Relay*DPDT*Kemet*EE2*NUX*; Footprint: Relay_SMD:Relay_DPDT_Kemet_EE2_NUX_NKX; Datasheet: https://content.kemet.com/datasheets/KEM_R7002_EC2_EE2.pdf; Description_: General purpose signal relay, Kemet EE2 Series, DPDT (2 Form C), single coil latching, high solder joint reliability SMD, 60W/125VA, 220VDC/250VAC, 2A, 4.5V DC coil
pins: 1, 3, 4, 5, 8, 9, 10, 12
text: +; S; R

## EE2-4.5TNU
designator *  value EE2-4.5TNU  Reference: K
General purpose signal relay, Kemet EE2 Series, DPDT (2 Form C), double coil latching, SMD, 60W/125VA, 220VDC/250VAC, 2A, 4.5V DC coil; ki_keywords: signal relay double pole double throw DPDT DC coil double dual coil latching; ki_fp_filters: Relay*DPDT*Kemet*EE2*NU*DoubleCoil*; Footprint: Relay_SMD:Relay_DPDT_Kemet_EE2_NU_DoubleCoil; Datasheet: https://content.kemet.com/datasheets/KEM_R7002_EC2_EE2.pdf; Description_: General purpose signal relay, Kemet EE2 Series, DPDT (2 Form C), double coil latching, SMD, 60W/125VA, 220VDC/250VAC, 2A, 4.5V DC coil
pins: 1, 3, 4, 5, 6, 7, 8, 9, 10, 12
text: +; S; R

## EE2-4.5TNUH
designator *  value EE2-4.5TNUH  Reference: K
General purpose signal relay, Kemet EE2 Series, DPDT (2 Form C), double coil latching, small footprint SMD, 60W/125VA, 220VDC/250VAC, 2A, 4.5V DC coil; ki_keywords: signal relay double pole double throw DPDT DC coil double dual coil latching; ki_fp_filters: Relay*DPDT*Kemet*EE2*NUH*DoubleCoil*; Footprint: Relay_SMD:Relay_DPDT_Kemet_EE2_NUH_DoubleCoil; Datasheet: https://content.kemet.com/datasheets/KEM_R7002_EC2_EE2.pdf; Description_: General purpose signal relay, Kemet EE2 Series, DPDT (2 Form C), double coil latching, small footprint SMD, 60W/125VA, 220VDC/250VAC, 2A, 4.5V DC coil
pins: 1, 3, 4, 5, 6, 7, 8, 9, 10, 12
text: +; S; R

## EE2-4.5TNUX
designator *  value EE2-4.5TNUX  Reference: K
General purpose signal relay, Kemet EE2 Series, DPDT (2 Form C), double coil latching, high solder joint reliability SMD, 60W/125VA, 220VDC/250VAC, 2A, 4.5V DC coil; ki_keywords: signal relay double pole double throw DPDT DC coil double dual coil latching; ki_fp_filters: Relay*DPDT*Kemet*EE2*NUX*DoubleCoil*; Footprint: Relay_SMD:Relay_DPDT_Kemet_EE2_NUX_DoubleCoil; Datasheet: https://content.kemet.com/datasheets/KEM_R7002_EC2_EE2.pdf; Description_: General purpose signal relay, Kemet EE2 Series, DPDT (2 Form C), double coil latching, high solder joint reliability SMD, 60W/125VA, 220VDC/250VAC, 2A, 4.5V DC coil
pins: 1, 3, 4, 5, 6, 7, 8, 9, 10, 12
text: +; S; R

## EE2-5NU
designator *  value EE2-5NU  Reference: K
General purpose signal relay, Kemet EE2 Series, DPDT (2 Form C), non-latching, SMD, 60W/125VA, 220VDC/250VAC, 2A, 5V DC coil; ki_keywords: signal relay double pole double throw DPDT DC coil non latching; ki_fp_filters: Relay*DPDT*Kemet*EE2*NU*; Footprint: Relay_SMD:Relay_DPDT_Kemet_EE2_NU; Datasheet: https://content.kemet.com/datasheets/KEM_R7002_EC2_EE2.pdf; Description_: General purpose signal relay, Kemet EE2 Series, DPDT (2 Form C), non-latching, SMD, 60W/125VA, 220VDC/250VAC, 2A, 5V DC coil
pins: 1, 3, 4, 5, 8, 9, 10, 12
text: +

## EE2-5NUH
designator *  value EE2-5NUH  Reference: K
General purpose signal relay, Kemet EE2 Series, DPDT (2 Form C), non-latching, small footprint SMD, 60W/125VA, 220VDC/250VAC, 2A, 5V DC coil; ki_keywords: signal relay double pole double throw DPDT DC coil non latching; ki_fp_filters: Relay*DPDT*Kemet*EE2*NUH*; Footprint: Relay_SMD:Relay_DPDT_Kemet_EE2_NUH; Datasheet: https://content.kemet.com/datasheets/KEM_R7002_EC2_EE2.pdf; Description_: General purpose signal relay, Kemet EE2 Series, DPDT (2 Form C), non-latching, small footprint SMD, 60W/125VA, 220VDC/250VAC, 2A, 5V DC coil
pins: 1, 3, 4, 5, 8, 9, 10, 12
text: +

## EE2-5NUX
designator *  value EE2-5NUX  Reference: K
General purpose signal relay, Kemet EE2 Series, DPDT (2 Form C), non-latching, high solder joint reliability SMD, 60W/125VA, 220VDC/250VAC, 2A, 5V DC coil; ki_keywords: signal relay double pole double throw DPDT DC coil non latching; ki_fp_filters: Relay*DPDT*Kemet*EE2*NUX*; Footprint: Relay_SMD:Relay_DPDT_Kemet_EE2_NUX_NKX; Datasheet: https://content.kemet.com/datasheets/KEM_R7002_EC2_EE2.pdf; Description_: General purpose signal relay, Kemet EE2 Series, DPDT (2 Form C), non-latching, high solder joint reliability SMD, 60W/125VA, 220VDC/250VAC, 2A, 5V DC coil
pins: 1, 3, 4, 5, 8, 9, 10, 12
text: +

## EE2-5SNU
designator *  value EE2-5SNU  Reference: K
General purpose signal relay, Kemet EE2 Series, DPDT (2 Form C), single coil latching, SMD, 60W/125VA, 220VDC/250VAC, 2A, 5V DC coil; ki_keywords: signal relay double pole double throw DPDT DC coil single coil latching; ki_fp_filters: Relay*DPDT*Kemet*EE2*NU*; Footprint: Relay_SMD:Relay_DPDT_Kemet_EE2_NU; Datasheet: https://content.kemet.com/datasheets/KEM_R7002_EC2_EE2.pdf; Description_: General purpose signal relay, Kemet EE2 Series, DPDT (2 Form C), single coil latching, SMD, 60W/125VA, 220VDC/250VAC, 2A, 5V DC coil
pins: 1, 3, 4, 5, 8, 9, 10, 12
text: +; S; R

## EE2-5SNUH
designator *  value EE2-5SNUH  Reference: K
General purpose signal relay, Kemet EE2 Series, DPDT (2 Form C), single coil latching, small footprint SMD, 60W/125VA, 220VDC/250VAC, 2A, 5V DC coil; ki_keywords: signal relay double pole double throw DPDT DC coil single coil latching; ki_fp_filters: Relay*DPDT*Kemet*EE2*NUH*; Footprint: Relay_SMD:Relay_DPDT_Kemet_EE2_NUH; Datasheet: https://content.kemet.com/datasheets/KEM_R7002_EC2_EE2.pdf; Description_: General purpose signal relay, Kemet EE2 Series, DPDT (2 Form C), single coil latching, small footprint SMD, 60W/125VA, 220VDC/250VAC, 2A, 5V DC coil
pins: 1, 3, 4, 5, 8, 9, 10, 12
text: +; S; R

## EE2-5SNUX
designator *  value EE2-5SNUX  Reference: K
General purpose signal relay, Kemet EE2 Series, DPDT (2 Form C), single coil latching, high solder joint reliability SMD, 60W/125VA, 220VDC/250VAC, 2A, 5V DC coil; ki_keywords: signal relay double pole double throw DPDT DC coil single coil latching; ki_fp_filters: Relay*DPDT*Kemet*EE2*NUX*; Footprint: Relay_SMD:Relay_DPDT_Kemet_EE2_NUX_NKX; Datasheet: https://content.kemet.com/datasheets/KEM_R7002_EC2_EE2.pdf; Description_: General purpose signal relay, Kemet EE2 Series, DPDT (2 Form C), single coil latching, high solder joint reliability SMD, 60W/125VA, 220VDC/250VAC, 2A, 5V DC coil
pins: 1, 3, 4, 5, 8, 9, 10, 12
text: +; S; R

## EE2-5TNU
designator *  value EE2-5TNU  Reference: K
General purpose signal relay, Kemet EE2 Series, DPDT (2 Form C), double coil latching, SMD, 60W/125VA, 220VDC/250VAC, 2A, 5V DC coil; ki_keywords: signal relay double pole double throw DPDT DC coil double dual coil latching; ki_fp_filters: Relay*DPDT*Kemet*EE2*NU*DoubleCoil*; Footprint: Relay_SMD:Relay_DPDT_Kemet_EE2_NU_DoubleCoil; Datasheet: https://content.kemet.com/datasheets/KEM_R7002_EC2_EE2.pdf; Description_: General purpose signal relay, Kemet EE2 Series, DPDT (2 Form C), double coil latching, SMD, 60W/125VA, 220VDC/250VAC, 2A, 5V DC coil
pins: 1, 3, 4, 5, 6, 7, 8, 9, 10, 12
text: +; S; R

## EE2-5TNUH
designator *  value EE2-5TNUH  Reference: K
General purpose signal relay, Kemet EE2 Series, DPDT (2 Form C), double coil latching, small footprint SMD, 60W/125VA, 220VDC/250VAC, 2A, 5V DC coil; ki_keywords: signal relay double pole double throw DPDT DC coil double dual coil latching; ki_fp_filters: Relay*DPDT*Kemet*EE2*NUH*DoubleCoil*; Footprint: Relay_SMD:Relay_DPDT_Kemet_EE2_NUH_DoubleCoil; Datasheet: https://content.kemet.com/datasheets/KEM_R7002_EC2_EE2.pdf; Description_: General purpose signal relay, Kemet EE2 Series, DPDT (2 Form C), double coil latching, small footprint SMD, 60W/125VA, 220VDC/250VAC, 2A, 5V DC coil
pins: 1, 3, 4, 5, 6, 7, 8, 9, 10, 12
text: +; S; R

## EE2-5TNUX
designator *  value EE2-5TNUX  Reference: K
General purpose signal relay, Kemet EE2 Series, DPDT (2 Form C), double coil latching, high solder joint reliability SMD, 60W/125VA, 220VDC/250VAC, 2A, 5V DC coil; ki_keywords: signal relay double pole double throw DPDT DC coil double dual coil latching; ki_fp_filters: Relay*DPDT*Kemet*EE2*NUX*DoubleCoil*; Footprint: Relay_SMD:Relay_DPDT_Kemet_EE2_NUX_DoubleCoil; Datasheet: https://content.kemet.com/datasheets/KEM_R7002_EC2_EE2.pdf; Description_: General purpose signal relay, Kemet EE2 Series, DPDT (2 Form C), double coil latching, high solder joint reliability SMD, 60W/125VA, 220VDC/250VAC, 2A, 5V DC coil
pins: 1, 3, 4, 5, 6, 7, 8, 9, 10, 12
text: +; S; R

## EE2-12NKX
designator *  value EE2-12NKX  Reference: K
General purpose signal relay, Kemet EE2 Series, DPDT (2 Form C), non-latching, high breakdown voltage, high solder joint reliability SMD, 60W/125VA, 220VDC/250VAC, 2A, 12V DC coil; ki_keywords: signal relay double pole double throw DPDT DC coil non latching; ki_fp_filters: Relay*DPDT*Kemet*EE2*NKX*; Footprint: Relay_SMD:Relay_DPDT_Kemet_EE2_NUX_NKX; Datasheet: https://content.kemet.com/datasheets/KEM_R7002_EC2_EE2.pdf; Description_: General purpose signal relay, Kemet EE2 Series, DPDT (2 Form C), non-latching, high breakdown voltage, high solder joint reliability SMD, 60W/125VA, 220VDC/250VAC, 2A, 12V DC coil
pins: 1, 3, 4, 5, 8, 9, 10, 12
text: +

## EE2-12NU
designator *  value EE2-12NU  Reference: K
General purpose signal relay, Kemet EE2 Series, DPDT (2 Form C), non-latching, SMD, 60W/125VA, 220VDC/250VAC, 2A, 12V DC coil; ki_keywords: signal relay double pole double throw DPDT DC coil non latching; ki_fp_filters: Relay*DPDT*Kemet*EE2*NU*; Footprint: Relay_SMD:Relay_DPDT_Kemet_EE2_NU; Datasheet: https://content.kemet.com/datasheets/KEM_R7002_EC2_EE2.pdf; Description_: General purpose signal relay, Kemet EE2 Series, DPDT (2 Form C), non-latching, SMD, 60W/125VA, 220VDC/250VAC, 2A, 12V DC coil
pins: 1, 3, 4, 5, 8, 9, 10, 12
text: +

## EE2-12NUH
designator *  value EE2-12NUH  Reference: K
General purpose signal relay, Kemet EE2 Series, DPDT (2 Form C), non-latching, small footprint SMD, 60W/125VA, 220VDC/250VAC, 2A, 12V DC coil; ki_keywords: signal relay double pole double throw DPDT DC coil non latching; ki_fp_filters: Relay*DPDT*Kemet*EE2*NUH*; Footprint: Relay_SMD:Relay_DPDT_Kemet_EE2_NUH; Datasheet: https://content.kemet.com/datasheets/KEM_R7002_EC2_EE2.pdf; Description_: General purpose signal relay, Kemet EE2 Series, DPDT (2 Form C), non-latching, small footprint SMD, 60W/125VA, 220VDC/250VAC, 2A, 12V DC coil
pins: 1, 3, 4, 5, 8, 9, 10, 12
text: +

## EE2-12NUX
designator *  value EE2-12NUX  Reference: K
General purpose signal relay, Kemet EE2 Series, DPDT (2 Form C), non-latching, high solder joint reliability SMD, 60W/125VA, 220VDC/250VAC, 2A, 12V DC coil; ki_keywords: signal relay double pole double throw DPDT DC coil non latching; ki_fp_filters: Relay*DPDT*Kemet*EE2*NUX*; Footprint: Relay_SMD:Relay_DPDT_Kemet_EE2_NUX_NKX; Datasheet: https://content.kemet.com/datasheets/KEM_R7002_EC2_EE2.pdf; Description_: General purpose signal relay, Kemet EE2 Series, DPDT (2 Form C), non-latching, high solder joint reliability SMD, 60W/125VA, 220VDC/250VAC, 2A, 12V DC coil
pins: 1, 3, 4, 5, 8, 9, 10, 12
text: +

## EE2-12SNU
designator *  value EE2-12SNU  Reference: K
General purpose signal relay, Kemet EE2 Series, DPDT (2 Form C), single coil latching, SMD, 60W/125VA, 220VDC/250VAC, 2A, 12V DC coil; ki_keywords: signal relay double pole double throw DPDT DC coil single coil latching; ki_fp_filters: Relay*DPDT*Kemet*EE2*NU*; Footprint: Relay_SMD:Relay_DPDT_Kemet_EE2_NU; Datasheet: https://content.kemet.com/datasheets/KEM_R7002_EC2_EE2.pdf; Description_: General purpose signal relay, Kemet EE2 Series, DPDT (2 Form C), single coil latching, SMD, 60W/125VA, 220VDC/250VAC, 2A, 12V DC coil
pins: 1, 3, 4, 5, 8, 9, 10, 12
text: +; S; R

## EE2-12SNUH
designator *  value EE2-12SNUH  Reference: K
General purpose signal relay, Kemet EE2 Series, DPDT (2 Form C), single coil latching, small footprint SMD, 60W/125VA, 220VDC/250VAC, 2A, 12V DC coil; ki_keywords: signal relay double pole double throw DPDT DC coil single coil latching; ki_fp_filters: Relay*DPDT*Kemet*EE2*NUH*; Footprint: Relay_SMD:Relay_DPDT_Kemet_EE2_NUH; Datasheet: https://content.kemet.com/datasheets/KEM_R7002_EC2_EE2.pdf; Description_: General purpose signal relay, Kemet EE2 Series, DPDT (2 Form C), single coil latching, small footprint SMD, 60W/125VA, 220VDC/250VAC, 2A, 12V DC coil
pins: 1, 3, 4, 5, 8, 9, 10, 12
text: +; S; R

## EE2-12SNUX
designator *  value EE2-12SNUX  Reference: K
General purpose signal relay, Kemet EE2 Series, DPDT (2 Form C), single coil latching, high solder joint reliability SMD, 60W/125VA, 220VDC/250VAC, 2A, 12V DC coil; ki_keywords: signal relay double pole double throw DPDT DC coil single coil latching; ki_fp_filters: Relay*DPDT*Kemet*EE2*NUX*; Footprint: Relay_SMD:Relay_DPDT_Kemet_EE2_NUX_NKX; Datasheet: https://content.kemet.com/datasheets/KEM_R7002_EC2_EE2.pdf; Description_: General purpose signal relay, Kemet EE2 Series, DPDT (2 Form C), single coil latching, high solder joint reliability SMD, 60W/125VA, 220VDC/250VAC, 2A, 12V DC coil
pins: 1, 3, 4, 5, 8, 9, 10, 12
text: +; S; R

## EE2-12TNU
designator *  value EE2-12TNU  Reference: K
General purpose signal relay, Kemet EE2 Series, DPDT (2 Form C), double coil latching, SMD, 60W/125VA, 220VDC/250VAC, 2A, 12V DC coil; ki_keywords: signal relay double pole double throw DPDT DC coil double dual coil latching; ki_fp_filters: Relay*DPDT*Kemet*EE2*NU*DoubleCoil*; Footprint: Relay_SMD:Relay_DPDT_Kemet_EE2_NU_DoubleCoil; Datasheet: https://content.kemet.com/datasheets/KEM_R7002_EC2_EE2.pdf; Description_: General purpose signal relay, Kemet EE2 Series, DPDT (2 Form C), double coil latching, SMD, 60W/125VA, 220VDC/250VAC, 2A, 12V DC coil
pins: 1, 3, 4, 5, 6, 7, 8, 9, 10, 12
text: +; S; R

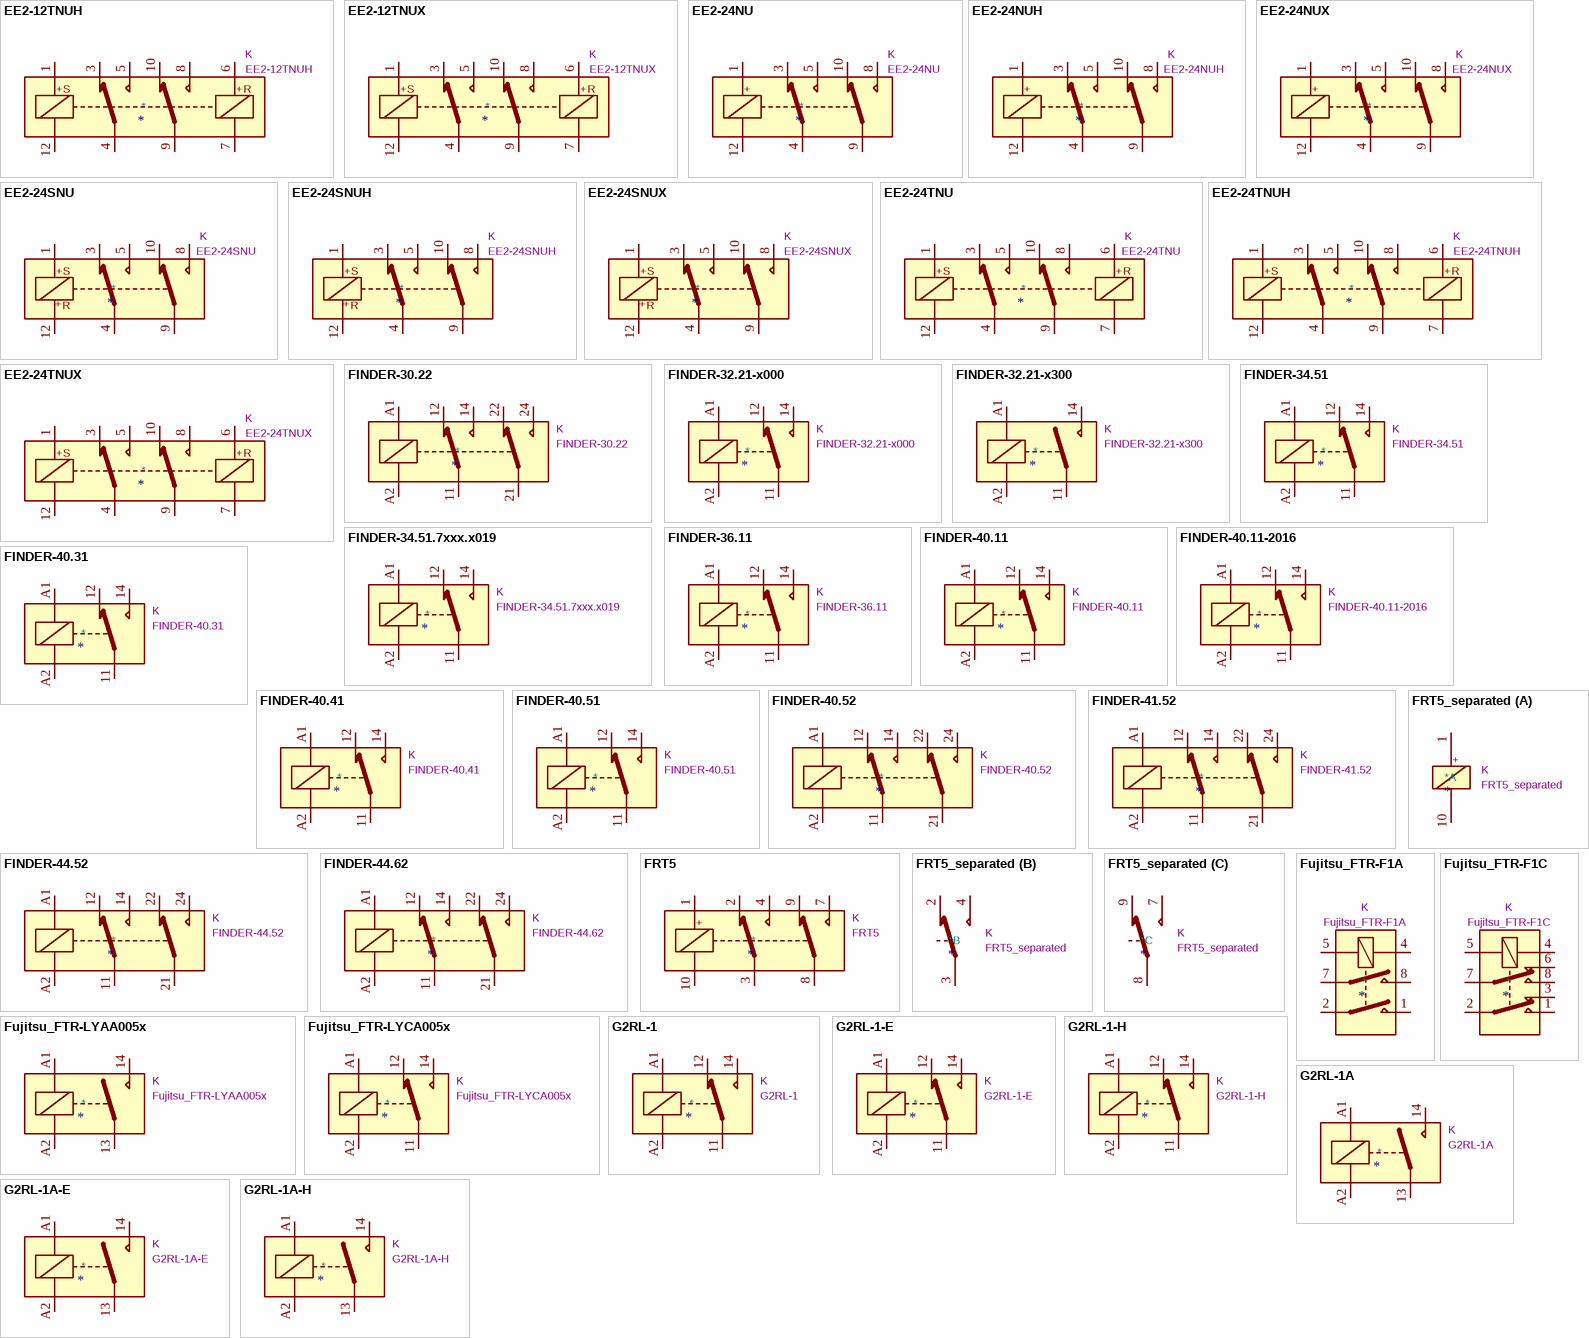
[diagram p2: symbols EE2-12TNUH to G2RL-1A-H]

## EE2-12TNUH
designator *  value EE2-12TNUH  Reference: K
General purpose signal relay, Kemet EE2 Series, DPDT (2 Form C), double coil latching, small footprint SMD, 60W/125VA, 220VDC/250VAC, 2A, 12V DC coil; ki_keywords: signal relay double pole double throw DPDT DC coil double dual coil latching; ki_fp_filters: Relay*DPDT*Kemet*EE2*NUH*DoubleCoil*; Footprint: Relay_SMD:Relay_DPDT_Kemet_EE2_NUH_DoubleCoil; Datasheet: https://content.kemet.com/datasheets/KEM_R7002_EC2_EE2.pdf; Description_: General purpose signal relay, Kemet EE2 Series, DPDT (2 Form C), double coil latching, small footprint SMD, 60W/125VA, 220VDC/250VAC, 2A, 12V DC coil
pins: 1, 3, 4, 5, 6, 7, 8, 9, 10, 12
text: +; S; R

## EE2-12TNUX
designator *  value EE2-12TNUX  Reference: K
General purpose signal relay, Kemet EE2 Series, DPDT (2 Form C), double coil latching, high solder joint reliability SMD, 60W/125VA, 220VDC/250VAC, 2A, 12V DC coil; ki_keywords: signal relay double pole double throw DPDT DC coil double dual coil latching; ki_fp_filters: Relay*DPDT*Kemet*EE2*NUX*DoubleCoil*; Footprint: Relay_SMD:Relay_DPDT_Kemet_EE2_NUX_DoubleCoil; Datasheet: https://content.kemet.com/datasheets/KEM_R7002_EC2_EE2.pdf; Description_: General purpose signal relay, Kemet EE2 Series, DPDT (2 Form C), double coil latching, high solder joint reliability SMD, 60W/125VA, 220VDC/250VAC, 2A, 12V DC coil
pins: 1, 3, 4, 5, 6, 7, 8, 9, 10, 12
text: +; S; R

## EE2-24NU
designator *  value EE2-24NU  Reference: K
General purpose signal relay, Kemet EE2 Series, DPDT (2 Form C), non-latching, SMD, 60W/125VA, 220VDC/250VAC, 2A, 24V DC coil; ki_keywords: signal relay double pole double throw DPDT DC coil non latching; ki_fp_filters: Relay*DPDT*Kemet*EE2*NU*; Footprint: Relay_SMD:Relay_DPDT_Kemet_EE2_NU; Datasheet: https://content.kemet.com/datasheets/KEM_R7002_EC2_EE2.pdf; Description_: General purpose signal relay, Kemet EE2 Series, DPDT (2 Form C), non-latching, SMD, 60W/125VA, 220VDC/250VAC, 2A, 24V DC coil
pins: 1, 3, 4, 5, 8, 9, 10, 12
text: +

## EE2-24NUH
designator *  value EE2-24NUH  Reference: K
General purpose signal relay, Kemet EE2 Series, DPDT (2 Form C), non-latching, small footprint SMD, 60W/125VA, 220VDC/250VAC, 2A, 24V DC coil; ki_keywords: signal relay double pole double throw DPDT DC coil non latching; ki_fp_filters: Relay*DPDT*Kemet*EE2*NUH*; Footprint: Relay_SMD:Relay_DPDT_Kemet_EE2_NUH; Datasheet: https://content.kemet.com/datasheets/KEM_R7002_EC2_EE2.pdf; Description_: General purpose signal relay, Kemet EE2 Series, DPDT (2 Form C), non-latching, small footprint SMD, 60W/125VA, 220VDC/250VAC, 2A, 24V DC coil
pins: 1, 3, 4, 5, 8, 9, 10, 12
text: +

## EE2-24NUX
designator *  value EE2-24NUX  Reference: K
General purpose signal relay, Kemet EE2 Series, DPDT (2 Form C), non-latching, high solder joint reliability SMD, 60W/125VA, 220VDC/250VAC, 2A, 24V DC coil; ki_keywords: signal relay double pole double throw DPDT DC coil non latching; ki_fp_filters: Relay*DPDT*Kemet*EE2*NUX*; Footprint: Relay_SMD:Relay_DPDT_Kemet_EE2_NUX_NKX; Datasheet: https://content.kemet.com/datasheets/KEM_R7002_EC2_EE2.pdf; Description_: General purpose signal relay, Kemet EE2 Series, DPDT (2 Form C), non-latching, high solder joint reliability SMD, 60W/125VA, 220VDC/250VAC, 2A, 24V DC coil
pins: 1, 3, 4, 5, 8, 9, 10, 12
text: +

## EE2-24SNU
designator *  value EE2-24SNU  Reference: K
General purpose signal relay, Kemet EE2 Series, DPDT (2 Form C), single coil latching, SMD, 60W/125VA, 220VDC/250VAC, 2A, 24V DC coil; ki_keywords: signal relay double pole double throw DPDT DC coil single coil latching; ki_fp_filters: Relay*DPDT*Kemet*EE2*NU*; Footprint: Relay_SMD:Relay_DPDT_Kemet_EE2_NU; Datasheet: https://content.kemet.com/datasheets/KEM_R7002_EC2_EE2.pdf; Description_: General purpose signal relay, Kemet EE2 Series, DPDT (2 Form C), single coil latching, SMD, 60W/125VA, 220VDC/250VAC, 2A, 24V DC coil
pins: 1, 3, 4, 5, 8, 9, 10, 12
text: +; S; R

## EE2-24SNUH
designator *  value EE2-24SNUH  Reference: K
General purpose signal relay, Kemet EE2 Series, DPDT (2 Form C), single coil latching, small footprint SMD, 60W/125VA, 220VDC/250VAC, 2A, 24V DC coil; ki_keywords: signal relay double pole double throw DPDT DC coil single coil latching; ki_fp_filters: Relay*DPDT*Kemet*EE2*NUH*; Footprint: Relay_SMD:Relay_DPDT_Kemet_EE2_NUH; Datasheet: https://content.kemet.com/datasheets/KEM_R7002_EC2_EE2.pdf; Description_: General purpose signal relay, Kemet EE2 Series, DPDT (2 Form C), single coil latching, small footprint SMD, 60W/125VA, 220VDC/250VAC, 2A, 24V DC coil
pins: 1, 3, 4, 5, 8, 9, 10, 12
text: +; S; R

## EE2-24SNUX
designator *  value EE2-24SNUX  Reference: K
General purpose signal relay, Kemet EE2 Series, DPDT (2 Form C), single coil latching, high solder joint reliability SMD, 60W/125VA, 220VDC/250VAC, 2A, 24V DC coil; ki_keywords: signal relay double pole double throw DPDT DC coil single coil latching; ki_fp_filters: Relay*DPDT*Kemet*EE2*NUX*; Footprint: Relay_SMD:Relay_DPDT_Kemet_EE2_NUX_NKX; Datasheet: https://content.kemet.com/datasheets/KEM_R7002_EC2_EE2.pdf; Description_: General purpose signal relay, Kemet EE2 Series, DPDT (2 Form C), single coil latching, high solder joint reliability SMD, 60W/125VA, 220VDC/250VAC, 2A, 24V DC coil
pins: 1, 3, 4, 5, 8, 9, 10, 12
text: +; S; R

## EE2-24TNU
designator *  value EE2-24TNU  Reference: K
General purpose signal relay, Kemet EE2 Series, DPDT (2 Form C), double coil latching, SMD, 60W/125VA, 220VDC/250VAC, 2A, 24V DC coil; ki_keywords: signal relay double pole double throw DPDT DC coil double dual coil latching; ki_fp_filters: Relay*DPDT*Kemet*EE2*NU*DoubleCoil*; Footprint: Relay_SMD:Relay_DPDT_Kemet_EE2_NU_DoubleCoil; Datasheet: https://content.kemet.com/datasheets/KEM_R7002_EC2_EE2.pdf; Description_: General purpose signal relay, Kemet EE2 Series, DPDT (2 Form C), double coil latching, SMD, 60W/125VA, 220VDC/250VAC, 2A, 24V DC coil
pins: 1, 3, 4, 5, 6, 7, 8, 9, 10, 12
text: +; S; R

## EE2-24TNUH
designator *  value EE2-24TNUH  Reference: K
General purpose signal relay, Kemet EE2 Series, DPDT (2 Form C), double coil latching, small footprint SMD, 60W/125VA, 220VDC/250VAC, 2A, 24V DC coil; ki_keywords: signal relay double pole double throw DPDT DC coil double dual coil latching; ki_fp_filters: Relay*DPDT*Kemet*EE2*NUH*DoubleCoil*; Footprint: Relay_SMD:Relay_DPDT_Kemet_EE2_NUH_DoubleCoil; Datasheet: https://content.kemet.com/datasheets/KEM_R7002_EC2_EE2.pdf; Description_: General purpose signal relay, Kemet EE2 Series, DPDT (2 Form C), double coil latching, small footprint SMD, 60W/125VA, 220VDC/250VAC, 2A, 24V DC coil
pins: 1, 3, 4, 5, 6, 7, 8, 9, 10, 12
text: +; S; R